# Altium footprint library R05CTE05S-R.PcbLib: 3 footprints
Each footprint in its own frame and in the unit in brackets; x right, y up, seen from the top. Pads: shape width x height; smd on the part's side, far side on the other; paste and mask are expansions set on the pad; w line width, h text height; cw(c..) or ccw(c..) is an arc to the next point about the centre after c.
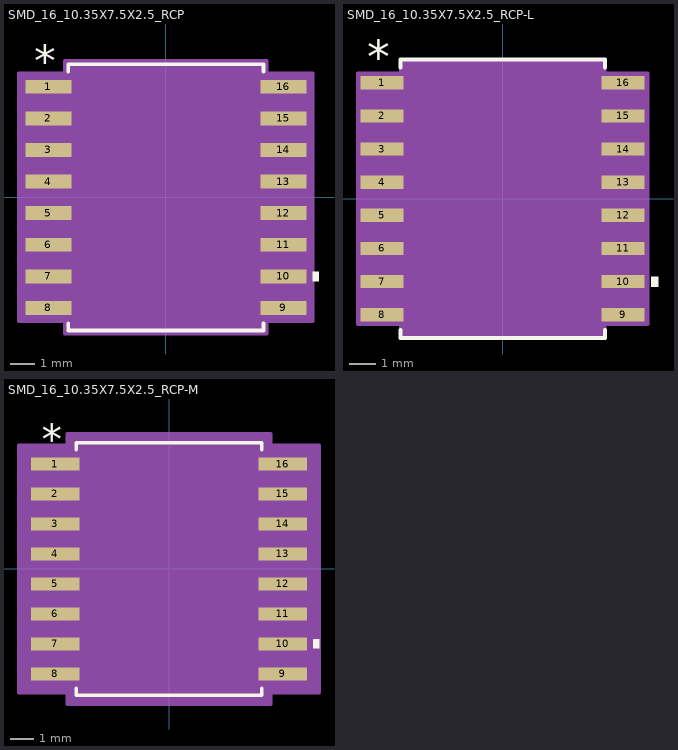
[diagram p0: the footprints below, top view; thin cyan lines are the x and y axes]

## SMD_16_10.35X7.5X2.5_RCP [mil]
pads (16):
  rect 72.78x21.97 smd paste+0 mask+0: 1(-185.89,175) 2(-185.89,125) 3(-185.89,75) 4(-185.89,25) 5(-185.89,-25) 6(-185.89,-75) 7(-185.89,-125) 8(-185.89,-175) 9(185.89,-175) 10(185.89,-125) 11(185.89,-75) 12(185.89,-25) 13(185.89,25) 14(185.89,75) 15(185.89,125) 16(185.89,175)
Top Overlay:
  region: 232.28,-117.5 242.28,-117.5 242.28,-132.5 232.28,-132.5
  lines w6: -154.5,-199.08 -154.5,-210.5 154.5,-210.5 154.5,-199.08 ; -154.5,199.08 -154.5,210.5 154.5,210.5 154.5,199.08
  text ".Designator" at -137.5,-25 h50
  text "*" at -208.39,191.97 h50
Mechanical 13:
  lines w1: -12,205.5 ccw(c0,205.5) 12,205.5 ; -208.5,-185 -208.5,-165 -149.5,-165 -149.5,-185 -208.5,-185 ; -208.5,-135 -208.5,-115 -149.5,-115 -149.5,-135 -208.5,-135 ; -208.5,-85 -208.5,-65 -149.5,-65 -149.5,-85 -208.5,-85 ; -208.5,-35 -208.5,-15 -149.5,-15 -149.5,-35 -208.5,-35 ; -208.5,15 -208.5,35 -149.5,35 -149.5,15 -208.5,15 ; -208.5,65 -208.5,85 -149.5,85 -149.5,65 -208.5,65 ; -208.5,115 -208.5,135 -149.5,135 -149.5,115 -208.5,115 ; -208.5,165 -208.5,185 -149.5,185 -149.5,165 -208.5,165 ; -149.5,-205.5 149.5,-205.5 149.5,205.5 -149.5,205.5 -149.5,-205.5 ; 149.5,-185 149.5,-165 208.5,-165 208.5,-185 149.5,-185 ; 149.5,-135 149.5,-115 208.5,-115 208.5,-135 149.5,-135 ; 149.5,-85 149.5,-65 208.5,-65 208.5,-85 149.5,-85 ; 149.5,-35 149.5,-15 208.5,-15 208.5,-35 149.5,-35 ; 149.5,15 149.5,35 208.5,35 208.5,15 149.5,15 ; 149.5,65 149.5,85 208.5,85 208.5,65 149.5,65 ; 149.5,115 149.5,135 208.5,135 208.5,115 149.5,115 ; 149.5,165 149.5,185 208.5,185 208.5,165 149.5,165
  text "*" at -147,152.5 h50
  text ".Designator" at -137.5,-25 h50
Mechanical 15:
  region: -159.5,-195.98 -232.28,-195.98 -232.28,195.98 -159.5,195.98 -159.5,215.5 159.5,215.5 159.5,195.98 232.28,195.98 232.28,-195.98 159.5,-195.98 159.5,-215.5 -159.5,-215.5
  lines w6: -232.28,-195.98 -232.28,195.98 -159.5,195.98 -159.5,215.5 159.5,215.5 159.5,195.98 232.28,195.98 232.28,-195.98 159.5,-195.98 159.5,-215.5 -159.5,-215.5 -159.5,-195.98 -232.28,-195.98
3D body "SMD_16_1035X75X25_RCP.step": height 104.09, standoff 0, extent -208.5,-205.51 208.5,205.51

## SMD_16_10.35X7.5X2.5_RCP-L [mil]
pads (16):
  rect 64.91x20 smd paste+0 mask+0: 1(-181.95,175) 2(-181.95,125) 3(-181.95,75) 4(-181.95,25) 5(-181.95,-25) 6(-181.95,-75) 7(-181.95,-125) 8(-181.95,-175) 9(181.95,-175) 10(181.95,-125) 11(181.95,-75) 12(181.95,-25) 13(181.95,25) 14(181.95,75) 15(181.95,125) 16(181.95,175)
Top Overlay:
  region: 224.41,-117.5 234.41,-117.5 234.41,-132.5 224.41,-132.5
  lines w6: -154.5,-198.1 -154.5,-210.5 154.5,-210.5 154.5,-198.1 ; -154.5,198.1 -154.5,210.5 154.5,210.5 154.5,198.1
  text ".Designator" at -137.5,-25 h50
  text "*" at -204.45,190 h50
Mechanical 13:
  lines w1: -12,205.5 ccw(c0,205.5) 12,205.5 ; -208.5,-185 -208.5,-165 -149.5,-165 -149.5,-185 -208.5,-185 ; -208.5,-135 -208.5,-115 -149.5,-115 -149.5,-135 -208.5,-135 ; -208.5,-85 -208.5,-65 -149.5,-65 -149.5,-85 -208.5,-85 ; -208.5,-35 -208.5,-15 -149.5,-15 -149.5,-35 -208.5,-35 ; -208.5,15 -208.5,35 -149.5,35 -149.5,15 -208.5,15 ; -208.5,65 -208.5,85 -149.5,85 -149.5,65 -208.5,65 ; -208.5,115 -208.5,135 -149.5,135 -149.5,115 -208.5,115 ; -208.5,165 -208.5,185 -149.5,185 -149.5,165 -208.5,165 ; -149.5,-205.5 149.5,-205.5 149.5,205.5 -149.5,205.5 -149.5,-205.5 ; 149.5,-185 149.5,-165 208.5,-165 208.5,-185 149.5,-185 ; 149.5,-135 149.5,-115 208.5,-115 208.5,-135 149.5,-135 ; 149.5,-85 149.5,-65 208.5,-65 208.5,-85 149.5,-85 ; 149.5,-35 149.5,-15 208.5,-15 208.5,-35 149.5,-35 ; 149.5,15 149.5,35 208.5,35 208.5,15 149.5,15 ; 149.5,65 149.5,85 208.5,85 208.5,65 149.5,65 ; 149.5,115 149.5,135 208.5,135 208.5,115 149.5,115 ; 149.5,165 149.5,185 208.5,185 208.5,165 149.5,165
  text "*" at -147,152.5 h50
  text ".Designator" at -137.5,-25 h50
Mechanical 15:
  region: -153.5,-189 -218.41,-189 -218.41,189 -153.5,189 -153.5,209.5 153.5,209.5 153.5,189 218.41,189 218.41,-189 153.5,-189 153.5,-209.5 -153.5,-209.5
  lines w6: -218.41,-189 -218.41,189 -153.5,189 -153.5,209.5 153.5,209.5 153.5,189 218.41,189 218.41,-189 153.5,-189 153.5,-209.5 -153.5,-209.5 -153.5,-189 -218.41,-189
3D body: height 10, standoff 0, extent 0,0 10,10

## SMD_16_10.35X7.5X2.5_RCP-M [mil]
pads (16):
  rect 80.65x21.97 smd paste+0 mask+0: 1(-189.83,175) 2(-189.83,125) 3(-189.83,75) 4(-189.83,25) 5(-189.83,-25) 6(-189.83,-75) 7(-189.83,-125) 8(-189.83,-175) 9(189.83,-175) 10(189.83,-125) 11(189.83,-75) 12(189.83,-25) 13(189.83,25) 14(189.83,75) 15(189.83,125) 16(189.83,175)
Top Overlay:
  region: 240.15,-117.5 250.15,-117.5 250.15,-132.5 240.15,-132.5
  lines w6: -154.5,-199.08 -154.5,-210.5 154.5,-210.5 154.5,-199.08 ; -154.5,199.08 -154.5,210.5 154.5,210.5 154.5,199.08
  text ".Designator" at -137.5,-25 h50
  text "*" at -212.33,191.97 h50
Mechanical 13:
  lines w1: -12,205.5 ccw(c0,205.5) 12,205.5 ; -208.5,-185 -208.5,-165 -149.5,-165 -149.5,-185 -208.5,-185 ; -208.5,-135 -208.5,-115 -149.5,-115 -149.5,-135 -208.5,-135 ; -208.5,-85 -208.5,-65 -149.5,-65 -149.5,-85 -208.5,-85 ; -208.5,-35 -208.5,-15 -149.5,-15 -149.5,-35 -208.5,-35 ; -208.5,15 -208.5,35 -149.5,35 -149.5,15 -208.5,15 ; -208.5,65 -208.5,85 -149.5,85 -149.5,65 -208.5,65 ; -208.5,115 -208.5,135 -149.5,135 -149.5,115 -208.5,115 ; -208.5,165 -208.5,185 -149.5,185 -149.5,165 -208.5,165 ; -149.5,-205.5 149.5,-205.5 149.5,205.5 -149.5,205.5 -149.5,-205.5 ; 149.5,-185 149.5,-165 208.5,-165 208.5,-185 149.5,-185 ; 149.5,-135 149.5,-115 208.5,-115 208.5,-135 149.5,-135 ; 149.5,-85 149.5,-65 208.5,-65 208.5,-85 149.5,-85 ; 149.5,-35 149.5,-15 208.5,-15 208.5,-35 149.5,-35 ; 149.5,15 149.5,35 208.5,35 208.5,15 149.5,15 ; 149.5,65 149.5,85 208.5,85 208.5,65 149.5,65 ; 149.5,115 149.5,135 208.5,135 208.5,115 149.5,115 ; 149.5,165 149.5,185 208.5,185 208.5,165 149.5,165
  text "*" at -147,152.5 h50
  text ".Designator" at -137.5,-25 h50
Mechanical 15:
  region: -169.5,-205.98 -250.15,-205.98 -250.15,205.98 -169.5,205.98 -169.5,225.5 169.5,225.5 169.5,205.98 250.15,205.98 250.15,-205.98 169.5,-205.98 169.5,-225.5 -169.5,-225.5
  lines w6: -250.15,-205.98 -250.15,205.98 -169.5,205.98 -169.5,225.5 169.5,225.5 169.5,205.98 250.15,205.98 250.15,-205.98 169.5,-205.98 169.5,-225.5 -169.5,-225.5 -169.5,-205.98 -250.15,-205.98
3D body: height 10, standoff 0, extent 0,0 10,10